# Altium footprint library XT30PW-F.PcbLib: 1 footprints
Each footprint in its own frame and in the unit in brackets; x right, y up, seen from the top. Pads: shape width x height; smd on the part's side, far side on the other; paste and mask are expansions set on the pad; w line width, h text height; cw(c..) or ccw(c..) is an arc to the next point about the centre after c.
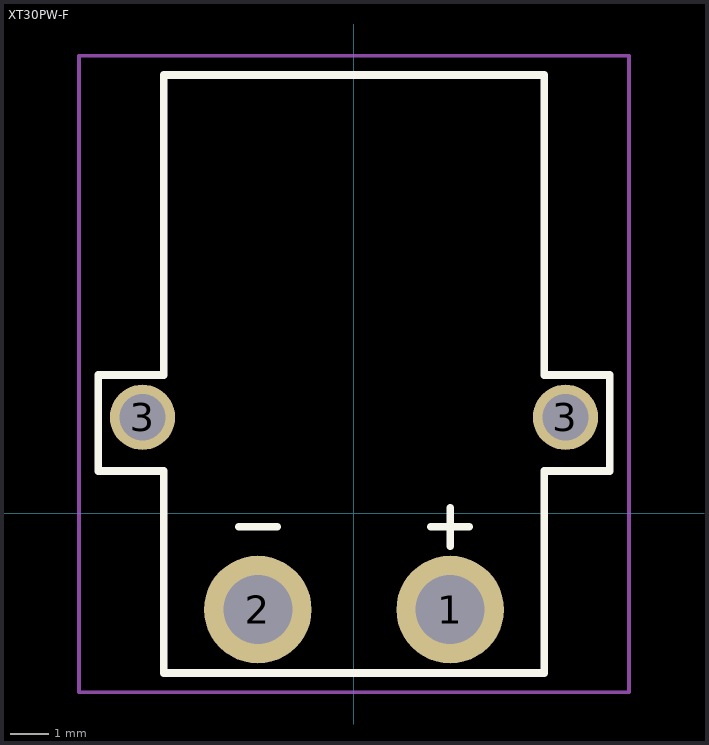
[diagram p0: the footprint, top view; thin cyan lines are the x and y axes]

## XT30PW-F [mm]
pads (4):
  round 2.8 hole 1.8: 1(2.5,-2.5) 2(-2.5,-2.5)
  round 1.7 hole 1.2: 3(-5.5,2.5) 3(5.5,2.5)
Top Overlay:
  lines w0.2: -3,-0.35 -2,-0.35 ; 2,-0.35 3,-0.35 ; 2.5,-0.85 2.5,0.15 ; -6.65,1.1 -4.95,1.1 -4.95,-4.15 4.95,-4.15 4.95,1.1 6.65,1.1 6.65,3.6 4.95,3.6 4.95,11.4 -4.95,11.4 -4.95,3.6 -6.65,3.6 -6.65,1.1
Top Courtyard:
  lines w0.1: -7.15,-4.65 -7.15,11.9 7.15,11.9 7.15,-4.65 -4.95,-4.65 -7.15,-4.65
3D body "User Library-XT30PW-F.step": height 5, standoff -2, extent -6.65,-3.5 6.65,11.4